# EAGLE library part JEENODEPORT (library Prcek)
JeeNode Port
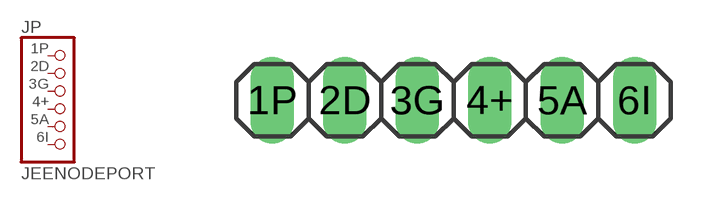
[diagram p0: symbol with the pads of JEENODEPORT; footprint JEENODEPORT]

Designator prefix JP

## JEENODEPORT  [JEENODEPORT]
1P  1P  pas
2D  2D  pas
3G  3G  pas
4+  4+  pas
5A  5A  pas
6I  6I  pas

## Footprint JEENODEPORT (pad centres in mm)
JeeNode Port
drill 1.016 long: 1P -6.35,0; 2D -3.81,0; 3G -1.27,0; 4+ 1.27,0; 5A 3.81,0; 6I 6.35,0